# EAGLE library part PIC18LF25K50 (library usevolt)
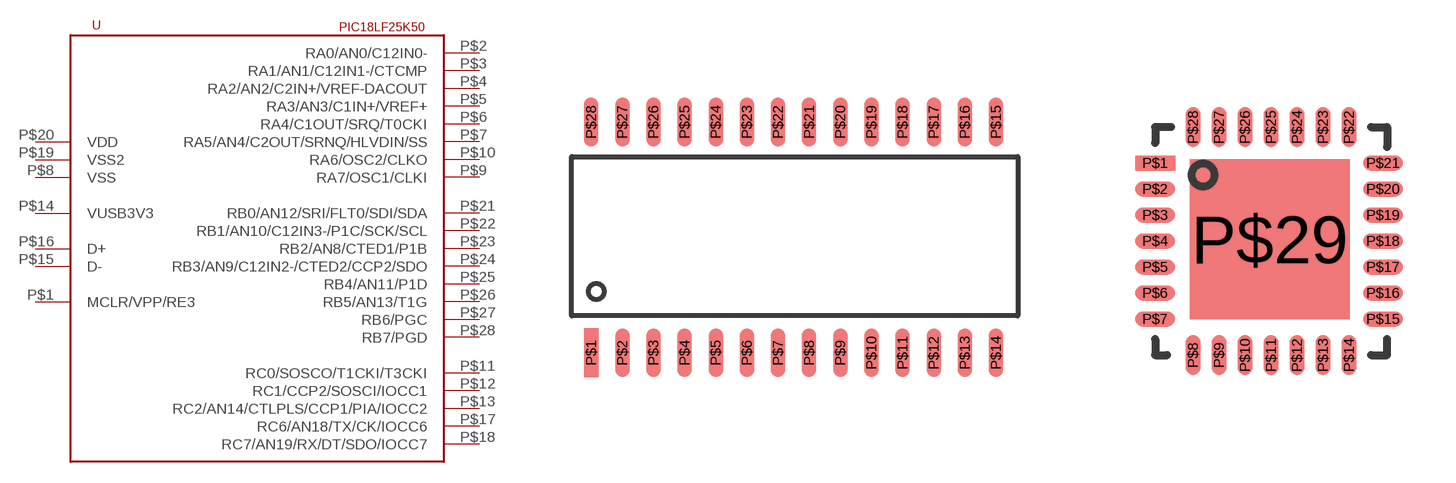
[diagram p5: symbol with the pads of SOIC28; footprints SOIC28, QFN28]

Designator prefix U

## PIC18LF25K50SOIC  [SOIC28]
P$1  MCLR/VPP/RE3
P$2  RA0/AN0/C12IN0-
P$3  RA1/AN1/C12IN1-/CTCMP
P$4  RA2/AN2/C2IN+/VREF-DACOUT
P$5  RA3/AN3/C1IN+/VREF+
P$6  RA4/C1OUT/SRQ/T0CKI
P$7  RA5/AN4/C2OUT/SRNQ/HLVDIN/SS
P$8  VSS
P$9  RA7/OSC1/CLKI
P$10  RA6/OSC2/CLKO
P$11  RC0/SOSCO/T1CKI/T3CKI
P$12  RC1/CCP2/SOSCI/IOCC1
P$13  RC2/AN14/CTLPLS/CCP1/PIA/IOCC2
P$14  VUSB3V3
P$15  D-
P$16  D+
P$17  RC6/AN18/TX/CK/IOCC6
P$18  RC7/AN19/RX/DT/SDO/IOCC7
P$19  VSS2
P$20  VDD
P$21  RB0/AN12/SRI/FLT0/SDI/SDA
P$22  RB1/AN10/C12IN3-/P1C/SCK/SCL
P$23  RB2/AN8/CTED1/P1B
P$24  RB3/AN9/C12IN2-/CTED2/CCP2/SDO
P$25  RB4/AN11/P1D
P$26  RB5/AN13/T1G
P$27  RB6/PGC
P$28  RB7/PGD

## PIC18LF25K50QFN  [QFN28]
P$1  RA2/AN2/C2IN+/VREF-DACOUT
P$2  RA3/AN3/C1IN+/VREF+
P$3  RA4/C1OUT/SRQ/T0CKI
P$4  RA5/AN4/C2OUT/SRNQ/HLVDIN/SS
P$5  VSS
P$6  RA7/OSC1/CLKI
P$7  RA6/OSC2/CLKO
P$8  RC0/SOSCO/T1CKI/T3CKI
P$9  RC1/CCP2/SOSCI/IOCC1
P$10  RC2/AN14/CTLPLS/CCP1/PIA/IOCC2
P$11  VUSB3V3
P$12  D-
P$13  D+
P$14  RC6/AN18/TX/CK/IOCC6
P$15  RC7/AN19/RX/DT/SDO/IOCC7
P$16  VSS2
P$17  VDD
P$18  RB0/AN12/SRI/FLT0/SDI/SDA
P$19  RB1/AN10/C12IN3-/P1C/SCK/SCL
P$20  RB2/AN8/CTED1/P1B
P$21  RB3/AN9/C12IN2-/CTED2/CCP2/SDO
P$22  RB4/AN11/P1D
P$23  RB5/AN13/T1G
P$24  RB6/PGC
P$25  RB7/PGD
P$26  MCLR/VPP/RE3
P$27  RA0/AN0/C12IN0-
P$28  RA1/AN1/C12IN1-/CTCMP

## Footprint SOIC28 (pad centres in mm)
smd 0.6 x 2: P$1 0,0; P$2 1.27,0; P$3 2.54,0; P$4 3.81,0; P$5 5.08,0; P$6 6.35,0; P$7 7.62,0; P$8 8.89,0; P$9 10.16,0; P$10 11.43,0; P$11 12.7,0; P$12 13.97,0; P$13 15.24,0; P$14 16.51,0; P$15 16.51,9.41; P$16 15.24,9.41; P$17 13.97,9.41; P$18 12.7,9.41; P$19 11.43,9.41; P$20 10.16,9.41; P$21 8.89,9.41; P$22 7.62,9.41; P$23 6.35,9.41; P$24 5.08,9.41; P$25 3.81,9.41; P$26 2.54,9.41; P$27 1.27,9.41; P$28 0,9.41

## Footprint QFN28 (pad centres in mm)
smd 1 x 0.37: P$1 0,0; P$2 0,-0.65; P$3 0,-1.3; P$4 0,-1.95; P$5 0,-2.6; P$6 0,-3.25; P$7 0,-3.9; P$15 5.7,-3.9; P$16 5.7,-3.25; P$17 5.7,-2.6; P$18 5.7,-1.95; P$19 5.7,-1.3; P$20 5.7,-0.65; P$21 5.7,0
smd 0.37 x 1: P$8 0.95,-4.8; P$9 1.6,-4.8; P$10 2.25,-4.8; P$11 2.9,-4.8; P$12 3.55,-4.8; P$13 4.2,-4.8; P$14 4.85,-4.8; P$22 4.85,0.9; P$23 4.2,0.9; P$24 3.55,0.9; P$25 2.9,0.9; P$26 2.25,0.9; P$27 1.6,0.9; P$28 0.95,0.9
smd 4 x 4: P$29 2.87,-1.905